# Altium footprint library Ethernet CON.PcbLib: 3 footprints
Each footprint in its own frame and in the unit in brackets; x right, y up, seen from the top. Pads: shape width x height; smd on the part's side, far side on the other; paste and mask are expansions set on the pad; w line width, h text height; cw(c..) or ccw(c..) is an arc to the next point about the centre after c.
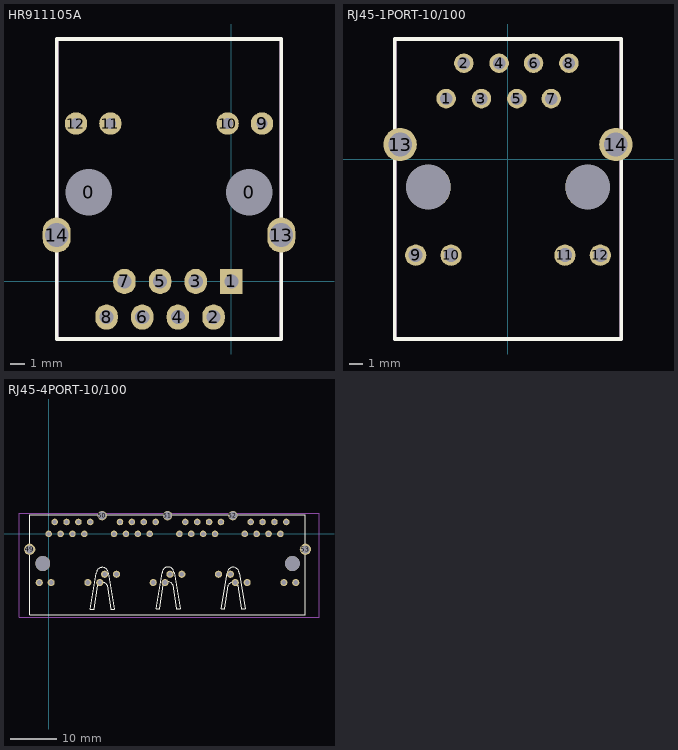
[diagram p0: the footprints below, top view; thin cyan lines are the x and y axes]

## HR911105A [mm]
pads (16):
  round 3.2 hole 3.3: 0(-10.16,6.35) 0(1.27,6.35)
  rect 1.6x1.8 hole 1: 1(0,0)
  oval 1.6x1.8 hole 1: 2(-1.27,-2.54) 3(-2.54,0) 4(-3.81,-2.54) 5(-5.08,0) 6(-6.35,-2.54) 7(-7.62,0) 8(-8.89,-2.54)
  round 1.6 hole 0.8: 9(2.18,11.25) 10(-0.27,11.25) 11(-8.62,11.25) 12(-11.07,11.25)
  oval 2x2.5 hole 1.7: 13(3.555,3.3) 14(-12.445,3.3)
Top Overlay:
  lines w0.254: 3.555,14.4 3.555,-4.1 ; -12.445,-4.1 3.555,-4.1 ; -12.445,-4.1 -12.445,14.4 -12.445,17.27 ; -12.445,-4.1 -12.445,17.27 ; -12.445,17.27 3.555,17.27 3.555,-4.1
Mechanical 29:
  lines w0.254: 3.555,14.4 3.555,-4.1 ; -12.445,-4.1 -12.445,17.27 ; -12.445,-4.1 -12.445,14.4 -12.445,17.27 ; -12.445,-4.1 3.555,-4.1 ; -12.445,17.27 3.555,17.27 3.555,-4.1
  text "'.Designator'" at -9.906,7.747 h1.02
3D body "HR911105A.STEP": height 13.6, standoff -2.9, extent -12.324,-4.223 3.556,17.177

## RJ45-1PORT-10/100 [mm] "21.5X16.26-H13.6"
pads (16):
  round 1.4 hole 0.9: 1(-4.445,4.355) 2(-3.175,6.895) 3(-1.905,4.355) 4(-0.635,6.895) 5(0.635,4.355) 6(1.835,6.895) 7(3.105,4.355) 8(4.375,6.895)
  round 1.524 hole 1: 9(-6.63,-6.895) 10(-4.09,-6.895) 11(4.09,-6.895) 12(6.63,-6.895)
  round 2.4 hole 1.7: 13(-7.75,1.055) 14(7.75,1.055)
  round 3.2 hole 3.2 unplated: ""(-5.715,-1.995) ""(5.715,-1.995)
Top Overlay:
  lines w0.254: -8.128,-12.914 8.13,-12.914 8.13,8.636 -8.128,8.636 -8.128,-12.914
Mechanical 29:
  lines w0.254: -8.128,-12.914 -8.128,8.636 8.13,8.636 8.13,-12.914 -8.128,-12.914
  text "'.Designator'" at -5.588,-0.127 h1.02
3D body "HR911105A.STEP": height 13.6, standoff -2.9, extent -8.001,-12.822 7.879,8.578

## RJ45-4PORT-10/100 [mm] "21.5X59.12-H13.6"
pads (55):
  round 1.4 hole 0.9: 1(0,0) 2(1.27,2.54) 3(2.54,0) 4(3.81,2.54) 5(5.08,0) 6(6.35,2.54) 7(7.62,0) 8(8.89,2.54) 13(13.97,0) 14(15.24,2.54) 15(16.51,0) 16(17.78,2.54) 17(19.05,0) 18(20.32,2.54) 19(21.59,0) 20(22.86,2.54) 25(27.94,0) 26(29.21,2.54) 27(30.48,0) 28(31.75,2.54) 29(33.02,0) 30(34.29,2.54) 31(35.56,0) 32(36.83,2.54) 37(41.91,0) 38(43.18,2.54) 39(44.45,0) 40(45.72,2.54) 41(46.99,0) 42(48.26,2.54) 43(49.53,0) 44(50.8,2.54)
  round 1.524 hole 1: 9(-2.02,-10.41) 10(0.52,-10.41) 11(8.37,-10.41) 12(10.91,-10.41) 21(11.95,-8.63) 22(14.49,-8.63) 23(22.34,-10.41) 24(24.88,-10.41) 33(25.92,-8.63) 34(28.46,-8.63) 35(36.31,-8.63) 36(38.85,-8.63) 45(39.89,-10.41) 46(42.43,-10.41) 47(50.28,-10.41) 48(52.82,-10.41)
  round 2.4 hole 1.7: 49(-4.065,-3.3) 53(54.865,-3.3)
  round 2 hole 1.7: 50(11.43,3.9) 51(25.4,3.9) 52(39.37,3.9)
  round 3.2 hole 3.2 unplated: ""(-1.27,-6.35) ""(52.07,-6.35)
Top Overlay:
  lines w0.254: 24.13,4.067 54.864,4.067 54.864,-17.269 -4.064,-17.269 -4.064,4.067 25.4,4.067 ; 8.925,-16.073 9.687,-16.073 10.449,-10.993 cw(c11.465,-11.501) 12.481,-10.993 13.244,-16.073 14.005,-16.073 12.736,-8.453 ccw(c11.465,-8.453) 10.195,-8.453 8.926,-16.073 ; 22.989,-15.979 23.751,-15.979 24.513,-10.899 cw(c25.529,-11.407) 26.545,-10.899 27.307,-15.979 28.069,-15.979 26.799,-8.359 ccw(c25.529,-8.359) 24.259,-8.359 22.989,-15.979 ; 36.893,-16.045 37.655,-16.045 38.417,-10.965 cw(c39.433,-11.473) 40.449,-10.965 41.211,-16.045 41.973,-16.045 40.703,-8.425 ccw(c39.433,-8.425) 38.163,-8.425 36.893,-16.045
Mechanical 29:
  lines w0.152: -6.35,-17.78 -6.35,4.445 57.785,4.445 57.785,-17.78 -6.35,-17.78
  text "'.Designator'" at 17.78,-6.223 h1.78
3D body "64F-1204GYD2NL--20191216.stp": height 2.75, standoff -16.05, extent -5.933,-17.272 56.987,4.228